# EAGLE library part NVTFS5C673NLTAG (library NVTFS5C673NLTAG)
Trans MOSFET N-CH 60V 13A Automotive 8-Pin WDFN EP T/R Source: Datasheet <https://www.onsemi.com/pdf/datasheet/nvtfs5c673nl-d.pdf>
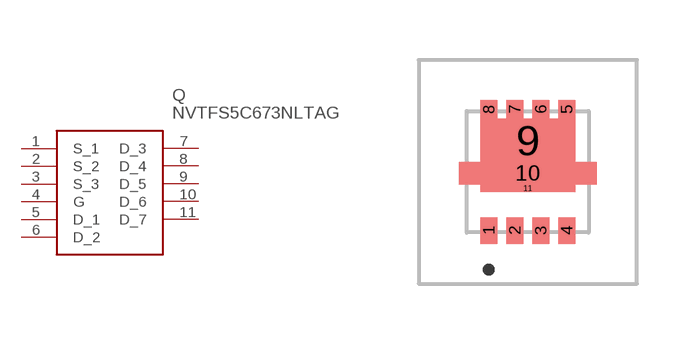
[diagram p0: symbol with the pads of NVTFS5C673NLTAG; footprint NVTFS5C673NLTAG]

Designator prefix Q

## NVTFS5C673NLTAG (Arrow_Part_Number: NVTFS5C673NLTAG; Arrow_Price-Stock: https://www.arrow.com/en/products/nvtfs5c673nltag/on-semiconductor; Description: Trans MOSFET N-CH 60V 13A Automotive 8-Pin WDFN EP T/R; Height: 0.8mm; Manufacturer_Name: onsemi; Manufacturer_Part_Number: NVTFS5C673NLTAG; Mouser_Part_Number: 863-NVTFS5C673NLTAG; Mouser_Price-Stock: https://www.mouser.co.uk/ProductDetail/ON-Semiconductor/NVTFS5C673NLTAG?qs=5aG0NVq1C4w4bkBmZ0y2Ug%3D%3D)  [NVTFS5C673NLTAG]
1  S_1
2  S_2
3  S_3
4  G
5  D_1
6  D_2
7  D_3
8  D_4
9  D_5
10  D_6
11  D_7

## Footprint NVTFS5C673NLTAG (pad centres in mm)
WDFN8_0.8H
smd 0.42 x 0.66: 1 -0.975,-1.47; 2 -0.325,-1.47; 3 0.325,-1.47; 4 0.975,-1.47
smd 0.42 x 0.47: 5 0.975,1.565; 6 0.325,1.565; 7 -0.325,1.565; 8 -0.975,1.565
smd 2.37 x 1.08: 9 0,0.79
smd 3.46 x 0.57: 10 0,-0.035
smd 2.37 x 0.18: 11 0,-0.41